# Altium schematic symbol library KUSB-C-C-P-3-6-1-05.SchLib: 1 symbol
Pins are listed as number, name and electrical type; pins without a type are passive.

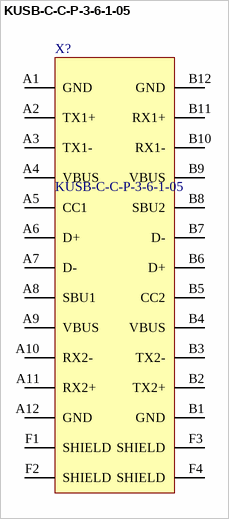
[diagram p0: symbol KUSB-C-C-P-3-6-1-05]

## KUSB-C-C-P-3-6-1-05
designator X?
pins: A1 GND (power) "2", A2 TX1+ "2", A3 TX1- "2", A4 VBUS (power) "2", A5 CC1 "2", A6 D+ "2", A7 D- "2", A8 SBU1 "2", A9 VBUS (power) "2", A10 RX2- "2", A11 RX2+ "2", A12 GND (power) "2", B1 GND (power) "2", B2 TX2+ "2", B3 TX2- "2", B4 VBUS (power) "2", B5 CC2 "2", B6 D+ "2", B7 D- "2", B8 SBU2 "2", B9 VBUS (power) "2", B10 RX1- "2", B11 RX1+ "2", B12 GND (power) "2", F1 SHIELD (power) "2", F2 SHIELD (power) "2", F3 SHIELD (power) "2", F4 SHIELD (power) "2"